# Altium footprint library 26043104.PcbLib: 1 footprints
Each footprint in its own frame and in the unit in brackets; x right, y up, seen from the top. Pads: shape width x height; smd on the part's side, far side on the other; paste and mask are expansions set on the pad; w line width, h text height; cw(c..) or ccw(c..) is an arc to the next point about the centre after c.
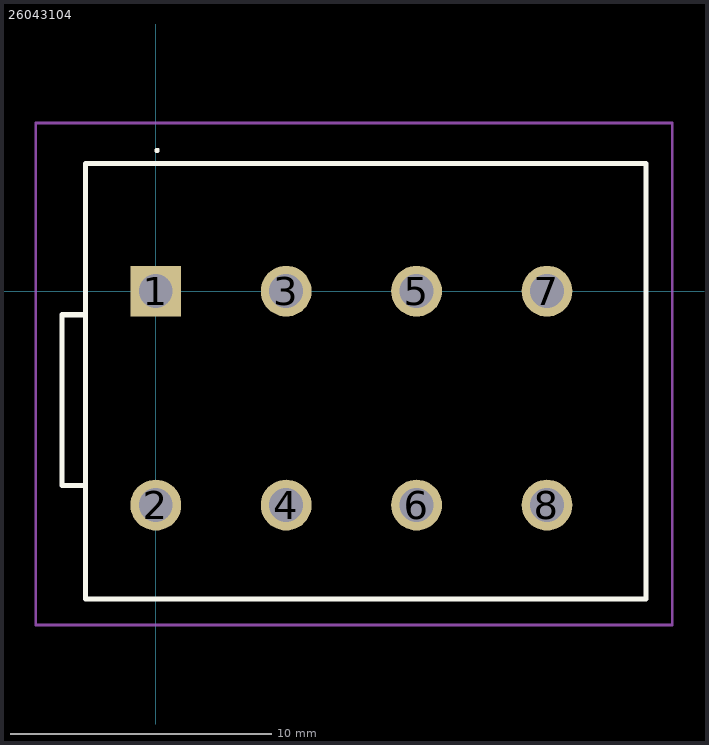
[diagram p0: the footprint, top view; thin cyan lines are the x and y axes]

## 26043104 [mm]
pads (8):
  rect 1.95x1.95 hole 1.3: 1(0,0)
  round 1.95 hole 1.3: 2(0,-8.2) 3(5,0) 4(5,-8.2) 5(10,0) 6(10,-8.2) 7(15,0) 8(15,-8.2)
Top Overlay:
  lines w0.1: 0,5.4 0,5.4 ; 0,5.4 ccw(c0.05,5.4) 0.1,5.4 ; 0,5.4 cw(c0.05,5.4) 0.1,5.4 ; 0.1,5.4 0.1,5.4
  lines w0.2: -2.7,-7.455 -3.6,-7.455 -3.6,-0.9 -2.7,-0.9 ; -2.7,-11.8 18.8,-11.8 18.8,4.9 -2.7,4.9 -2.7,-11.8
Mechanical 15:
  lines w0.1: -2.7,-11.8 18.8,-11.8 18.8,4.9 -2.7,4.9 -2.7,-11.8
Mechanical 20:
  lines w0.1: -4.6,-12.8 19.8,-12.8 19.8,6.45 -4.6,6.45 -4.6,-12.8